# Altium schematic symbol library jlcpcb_2024_10_capacitors_basic.schlib: 88 symbols (part 3 of 4)
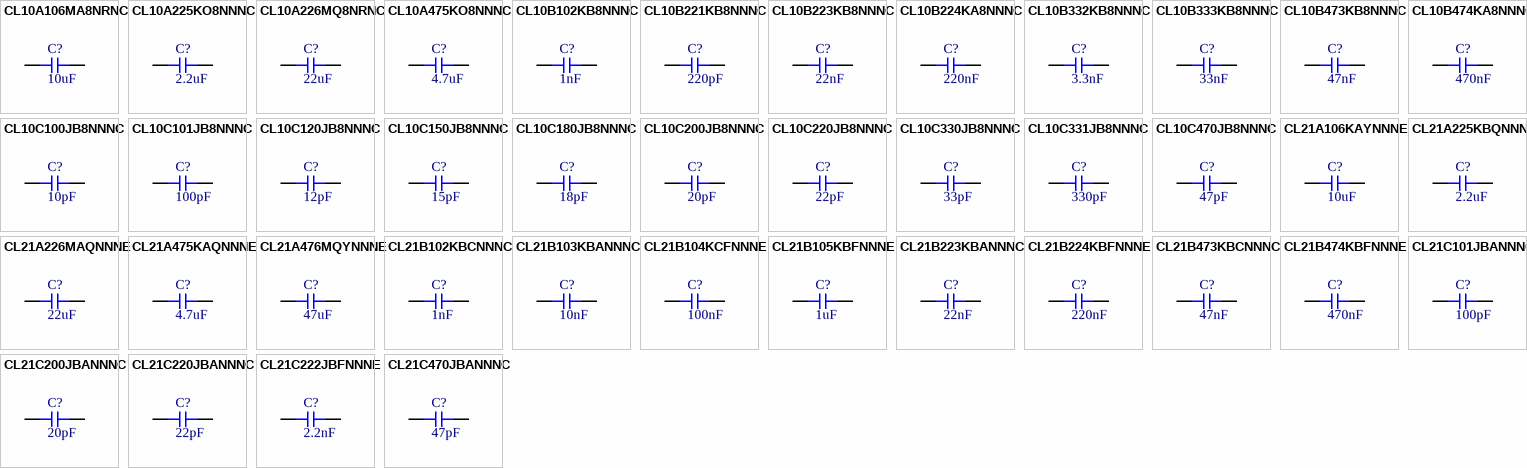
[diagram p4: symbols CL10A106MA8NRNC to CL21C470JBANNNC]

## CL10C220JB8NNNC
designator C?  Capacitance: 22pF  (hidden comment: *)
Capacitor, Ceramic (MLCC), 22pF, ±5%, 50V, C0G, ±5%, SMD 0603; Manufacturer: Samsung Electro-Mechanics; Manufacturer Part Number: CL10C220JB8NNNC; Temperature Rating: -55°C ~ 125°C; Impedance (0V Bias) @ 100MHz: 72Ω; Impedance (0V Bias) @ 500MHz: 12.9Ω; Impedance (0V Bias) @ 1GHz: 4.05Ω; Impedance (0V Bias) @ 2GHz: 4.92Ω; Impedance (0V Bias) @ 5GHz: 15.4Ω; Package Size: 0603; JLCPCB Basic Part: Yes; JLCPCB Part Number: C1653; Supplier 1: LCSC; Category: Capacitors - MLCC; Supplier Part Number 1: C1653; Tolerance: ±5%; Voltage Rating: 50V; Temperature Coefficient: C0G; RoHS: Yes; ComponentLink1Description: Datasheet; ComponentLink1URL: https://wmsc.lcsc.com/wmsc/upload/file/pdf/v2/lcsc/2304140030_Samsung-Electro-Mechanics-CL10C220JB8NNNC_C1653.pdf; ComponentLink2Description: JLCPCB Part URL; ComponentLink2URL: https://jlcpcb.com/partdetail/C1653; ComponentLink3Description: LCSC Part URL; ComponentLink3URL: https://lcsc.com/product-detail/Multilayer-Ceramic-Capacitors-MLCC---SMD-SMT_Samsung-Electro-Mechanics-Samsung-Electro-Mechanics-CL10C220JB8NNNC_C1653.html; ComponentLink4Description: Samsung Component Library; ComponentLink4URL: https://weblib.samsungsem.com/mlcc/mlcc-ec.do?partNumber=CL10C220JB8NNN
footprint CAP-0603 (0603 (1608M) Capacitor)
pins: 1, 2

## CL10C330JB8NNNC
designator C?  Capacitance: 33pF  (hidden comment: *)
Capacitor, Ceramic (MLCC), 33pF, ±5%, 50V, C0G, ±5%, SMD 0603; Manufacturer: Samsung Electro-Mechanics; Manufacturer Part Number: CL10C330JB8NNNC; Temperature Rating: -55°C ~ 125°C; Impedance (0V Bias) @ 100MHz: 47.9Ω; Impedance (0V Bias) @ 500MHz: 8.21Ω; Impedance (0V Bias) @ 1GHz: 2.01Ω; Impedance (0V Bias) @ 2GHz: 5.04Ω; Impedance (0V Bias) @ 5GHz: 11.1Ω; Package Size: 0603; JLCPCB Basic Part: Yes; JLCPCB Part Number: C1663; Supplier 1: LCSC; Category: Capacitors - MLCC; Supplier Part Number 1: C1663; Tolerance: ±5%; Voltage Rating: 50V; Temperature Coefficient: C0G; RoHS: Yes; ComponentLink1Description: Datasheet; ComponentLink1URL: https://wmsc.lcsc.com/wmsc/upload/file/pdf/v2/lcsc/2304140030_Samsung-Electro-Mechanics-CL10C330JB8NNNC_C1663.pdf; ComponentLink2Description: JLCPCB Part URL; ComponentLink2URL: https://jlcpcb.com/partdetail/C1663; ComponentLink3Description: LCSC Part URL; ComponentLink3URL: https://lcsc.com/product-detail/Multilayer-Ceramic-Capacitors-MLCC---SMD-SMT_Samsung-Electro-Mechanics-Samsung-Electro-Mechanics-CL10C330JB8NNNC_C1663.html; ComponentLink4Description: Samsung Component Library; ComponentLink4URL: https://weblib.samsungsem.com/mlcc/mlcc-ec.do?partNumber=CL10C330JB8NNN
footprint CAP-0603 (0603 (1608M) Capacitor)
pins: 1, 2

## CL10C331JB8NNNC
designator C?  Capacitance: 330pF  (hidden comment: *)
Capacitor, Ceramic (MLCC), 330pF, ±5%, 50V, C0G, ±5%, SMD 0603; Manufacturer: Samsung Electro-Mechanics; Manufacturer Part Number: CL10C331JB8NNNC; Temperature Rating: -55°C ~ 125°C; Impedance (0V Bias) @ 10MHz: 48.2Ω; Impedance (0V Bias) @ 50MHz: 9.5Ω; Impedance (0V Bias) @ 100MHz: 4.55Ω; Impedance (0V Bias) @ 500MHz: 0.412Ω; Impedance (0V Bias) @ 1GHz: 2.16Ω; Impedance (0V Bias) @ 2GHz: 4.95Ω; Impedance (0V Bias) @ 5GHz: 9.93Ω; Package Size: 0603; JLCPCB Basic Part: Yes; JLCPCB Part Number: C1664; Supplier 1: LCSC; Category: Capacitors - MLCC; Supplier Part Number 1: C1664; Tolerance: ±5%; Voltage Rating: 50V; Temperature Coefficient: C0G; RoHS: Yes; ComponentLink1Description: Datasheet; ComponentLink1URL: https://wmsc.lcsc.com/wmsc/upload/file/pdf/v2/lcsc/2304140030_Samsung-Electro-Mechanics-CL10C331JB8NNNC_C1664.pdf; ComponentLink2Description: JLCPCB Part URL; ComponentLink2URL: https://jlcpcb.com/partdetail/C1664; ComponentLink3Description: LCSC Part URL; ComponentLink3URL: https://lcsc.com/product-detail/Multilayer-Ceramic-Capacitors-MLCC---SMD-SMT_Samsung-Electro-Mechanics-Samsung-Electro-Mechanics-CL10C331JB8NNNC_C1664.html; ComponentLink4Description: Samsung Component Library; ComponentLink4URL: https://weblib.samsungsem.com/mlcc/mlcc-ec.do?partNumber=CL10C331JB8NNN
footprint CAP-0603 (0603 (1608M) Capacitor)
pins: 1, 2

## CL10C470JB8NNNC
designator C?  Capacitance: 47pF  (hidden comment: *)
Capacitor, Ceramic (MLCC), 47pF, ±5%, 50V, C0G, ±5%, SMD 0603; Manufacturer: Samsung Electro-Mechanics; Manufacturer Part Number: CL10C470JB8NNNC; Temperature Rating: -55°C ~ 125°C; Impedance (0V Bias) @ 100MHz: 33.5Ω; Impedance (0V Bias) @ 500MHz: 4.98Ω; Impedance (0V Bias) @ 1GHz: 0.296Ω; Impedance (0V Bias) @ 2GHz: 7.28Ω; Impedance (0V Bias) @ 5GHz: 16.2Ω; Package Size: 0603; JLCPCB Basic Part: Yes; JLCPCB Part Number: C1671; Supplier 1: LCSC; Category: Capacitors - MLCC; Supplier Part Number 1: C1671; Tolerance: ±5%; Voltage Rating: 50V; Temperature Coefficient: C0G; RoHS: Yes; ComponentLink1Description: Datasheet; ComponentLink1URL: https://wmsc.lcsc.com/wmsc/upload/file/pdf/v2/lcsc/2304140030_Samsung-Electro-Mechanics-CL10C470JB8NNNC_C1671.pdf; ComponentLink2Description: JLCPCB Part URL; ComponentLink2URL: https://jlcpcb.com/partdetail/C1671; ComponentLink3Description: LCSC Part URL; ComponentLink3URL: https://lcsc.com/product-detail/Multilayer-Ceramic-Capacitors-MLCC---SMD-SMT_Samsung-Electro-Mechanics-Samsung-Electro-Mechanics-CL10C470JB8NNNC_C1671.html; ComponentLink4Description: Samsung Component Library; ComponentLink4URL: https://weblib.samsungsem.com/mlcc/mlcc-ec.do?partNumber=CL10C470JB8NNN
footprint CAP-0603 (0603 (1608M) Capacitor)
pins: 1, 2

## CL21A106KAYNNNE
designator C?  Capacitance: 10uF  (hidden comment: *)
Capacitor, Ceramic (MLCC), 10uF, ±10%, 25V, X5R, ±10%, SMD 0805; Manufacturer: Samsung Electro-Mechanics; Manufacturer Part Number: CL21A106KAYNNNE; Temperature Rating: -55°C ~ 85°C; Capacitance @ 1V DC Bias: 10.643uF; Capacitance @ 1.2V DC Bias: 10.491uF; Capacitance @ 1.35V DC Bias: 10.346uF; Capacitance @ 1.5V DC Bias: 10.185uF; Capacitance @ 1.8V DC Bias: 9.822uF; Capacitance @ 2.5V DC Bias: 8.853uF; Capacitance @ 3.3V DC Bias: 7.678uF; Capacitance @ 3.7V DC Bias: 7.129uF; Capacitance @ 4.2V DC Bias: 6.498uF; Capacitance @ 5V DC Bias: 5.625uF; Capacitance @ 9V DC Bias: 2.972uF; Capacitance @ 12V DC Bias: 2.172uF; Capacitance @ 15V DC Bias: 1.589uF; Capacitance @ 24V DC Bias: 0.886uF; Impedance (0V Bias) @ 100Hz: 222Ω; Impedance (0V Bias) @ 500Hz: 45.6Ω; Impedance (0V Bias) @ 1kHz: 23.1Ω; Impedance (0V Bias) @ 5kHz: 4.73Ω; Impedance (0V Bias) @ 10kHz: 2.39Ω; Impedance (0V Bias) @ 50kHz: 0.49Ω; Impedance (0V Bias) @ 100kHz: 0.247Ω; Impedance (0V Bias) @ 500kHz: 0.0488Ω; Impedance (0V Bias) @ 1MHz: 0.0217Ω; Impedance (0V Bias) @ 5MHz: 0.0162Ω; Impedance (0V Bias) @ 10MHz: 0.0226Ω; Impedance (0V Bias) @ 50MHz: 0.0707Ω; Impedance (0V Bias) @ 100MHz: 0.125Ω; Impedance (0V Bias) @ 500MHz: 0.519Ω; Impedance (0V Bias) @ 1GHz: 1Ω; Impedance (0V Bias) @ 2GHz: 2.61Ω; Impedance (0V Bias) @ 5GHz: 3.47Ω; Impedance (25V Bias) @ 100Hz: 1.99E+03Ω; Impedance (25V Bias) @ 500Hz: 400Ω; Impedance (25V Bias) @ 1kHz: 201Ω; Impedance (25V Bias) @ 5kHz: 40.5Ω; Impedance (25V Bias) @ 10kHz: 20.3Ω; Impedance (25V Bias) @ 50kHz: 4.09Ω; Impedance (25V Bias) @ 100kHz: 2.05Ω; Impedance (25V Bias) @ 500kHz: 0.407Ω; Impedance (25V Bias) @ 1MHz: 0.181Ω; Impedance (25V Bias) @ 5MHz: 0.0296Ω; Impedance (25V Bias) @ 10MHz: 0.0203Ω; Impedance (25V Bias) @ 50MHz: 0.0794Ω; Impedance (25V Bias) @ 100MHz: 0.128Ω; Impedance (25V Bias) @ 1GHz: 0.987Ω; Impedance (25V Bias) @ 2GHz: 2.53Ω; Impedance (25V Bias) @ 5GHz: 3.45Ω; Package Size: 0805; JLCPCB Basic Part: Yes; JLCPCB Part Number: C15850; Supplier 1: LCSC; Category: Capacitors - MLCC; Supplier Part Number 1: C15850; Tolerance: ±10%; Voltage Rating: 25V; Temperature Coefficient: X5R; RoHS: Yes; ComponentLink1Description: Datasheet; ComponentLink1URL: https://wmsc.lcsc.com/wmsc/upload/file/pdf/v2/lcsc/2304140030_Samsung-Electro-Mechanics-CL21A106KAYNNNE_C15850.pdf; ComponentLink2Description: JLCPCB Part URL; ComponentLink2URL: https://jlcpcb.com/partdetail/C15850; ComponentLink3Description: LCSC Part URL; ComponentLink3URL: https://lcsc.com/product-detail/Multilayer-Ceramic-Capacitors-MLCC---SMD-SMT_Samsung-Electro-Mechanics-Samsung-Electro-Mechanics-CL21A106KAYNNNE_C15850.html; ComponentLink4Description: Samsung Component Library; ComponentLink4URL: https://weblib.samsungsem.com/mlcc/mlcc-ec.do?partNumber=CL21A106KAYNNN; Impedance (25V Bias) @ 500MHz: 0.519Ω
footprint CAP-0805 (0805 (2012M) Capacitor)
pins: 1, 2

## CL21A225KBQNNNE
designator C?  Capacitance: 2.2uF  (hidden comment: *)
Capacitor, Ceramic (MLCC), 2.2uF, ±10%, 50V, X5R, ±10%, SMD 0805; Manufacturer: Samsung Electro-Mechanics; Manufacturer Part Number: CL21A225KBQNNNE; Temperature Rating: -55°C ~ 85°C; Capacitance @ 1V DC Bias: 2.164uF; Capacitance @ 1.2V DC Bias: 2.169uF; Capacitance @ 1.35V DC Bias: 2.172uF; Capacitance @ 1.5V DC Bias: 2.174uF; Capacitance @ 1.8V DC Bias: 2.175uF; Capacitance @ 2.5V DC Bias: 2.152uF; Capacitance @ 3.3V DC Bias: 2.100uF; Capacitance @ 3.7V DC Bias: 2.067uF; Capacitance @ 4.2V DC Bias: 2.022uF; Capacitance @ 5V DC Bias: 1.940uF; Capacitance @ 9V DC Bias: 1.482uF; Capacitance @ 12V DC Bias: 1.214uF; Capacitance @ 15V DC Bias: 0.992uF; Capacitance @ 24V DC Bias: 0.604uF; Capacitance @ 36V DC Bias: 0.369uF; Capacitance @ 48V DC Bias: 0.274uF; Impedance (0V Bias) @ 100Hz: 786Ω; Impedance (0V Bias) @ 500Hz: 159Ω; Impedance (0V Bias) @ 1kHz: 80.1Ω; Impedance (0V Bias) @ 5kHz: 16.2Ω; Impedance (0V Bias) @ 10kHz: 8.14Ω; Impedance (0V Bias) @ 50kHz: 1.65Ω; Impedance (0V Bias) @ 100kHz: 0.827Ω; Impedance (0V Bias) @ 500kHz: 0.165Ω; Impedance (0V Bias) @ 1MHz: 0.0803Ω; Impedance (0V Bias) @ 5MHz: 0.00734Ω; Impedance (0V Bias) @ 10MHz: 0.0272Ω; Impedance (0V Bias) @ 50MHz: 0.0815Ω; Impedance (0V Bias) @ 100MHz: 0.146Ω; Impedance (0V Bias) @ 500MHz: 0.601Ω; Impedance (0V Bias) @ 1GHz: 1.13Ω; Impedance (0V Bias) @ 2GHz: 2.89Ω; Impedance (0V Bias) @ 5GHz: 4.04Ω; Package Size: 0805; JLCPCB Basic Part: Yes; JLCPCB Part Number: C377773; Supplier 1: LCSC; Category: Capacitors - MLCC; Supplier Part Number 1: C377773; Tolerance: ±10%; Voltage Rating: 50V; Temperature Coefficient: X5R; RoHS: Yes; ComponentLink1Description: Datasheet; ComponentLink1URL: https://wmsc.lcsc.com/wmsc/upload/file/pdf/v2/lcsc/2304140030_Samsung-Electro-Mechanics-CL21A225KBQNNNE_C377773.pdf; ComponentLink2Description: JLCPCB Part URL; ComponentLink2URL: https://jlcpcb.com/partdetail/C377773; ComponentLink3Description: LCSC Part URL; ComponentLink3URL: https://lcsc.com/product-detail/Multilayer-Ceramic-Capacitors-MLCC---SMD-SMT_Samsung-Electro-Mechanics-Samsung-Electro-Mechanics-CL21A225KBQNNNE_C377773.html; ComponentLink4Description: Samsung Component Library; ComponentLink4URL: https://weblib.samsungsem.com/mlcc/mlcc-ec.do?partNumber=CL21A225KBQNNN
footprint CAP-0805 (0805 (2012M) Capacitor)
pins: 1, 2

## CL21A226MAQNNNE
designator C?  Capacitance: 22uF  (hidden comment: *)
Capacitor, Ceramic (MLCC), 22uF, ±20%, 25V, X5R, ±20%, SMD 0805; Manufacturer: Samsung Electro-Mechanics; Manufacturer Part Number: CL21A226MAQNNNE; Temperature Rating: -55°C ~ 85°C; Capacitance @ 1V DC Bias: 19.999uF; Capacitance @ 1.2V DC Bias: 19.563uF; Capacitance @ 1.35V DC Bias: 19.202uF; Capacitance @ 1.5V DC Bias: 18.822uF; Capacitance @ 1.8V DC Bias: 18.030uF; Capacitance @ 2.5V DC Bias: 16.029uF; Capacitance @ 3.3V DC Bias: 13.689uF; Capacitance @ 3.7V DC Bias: 12.636uF; Capacitance @ 4.2V DC Bias: 11.463uF; Capacitance @ 5V DC Bias: 9.846uF; Capacitance @ 9V DC Bias: 5.133uF; Capacitance @ 12V DC Bias: 3.756uF; Capacitance @ 15V DC Bias: 2.756uF; Capacitance @ 24V DC Bias: 1.578uF; Impedance (0V Bias) @ 100Hz: 93.6Ω; Impedance (0V Bias) @ 500Hz: 19.1Ω; Impedance (0V Bias) @ 1kHz: 9.64Ω; Impedance (0V Bias) @ 5kHz: 1.97Ω; Impedance (0V Bias) @ 10kHz: 0.992Ω; Impedance (0V Bias) @ 50kHz: 0.203Ω; Impedance (0V Bias) @ 100kHz: 0.102Ω; Impedance (0V Bias) @ 500kHz: 0.0188Ω; Impedance (0V Bias) @ 1MHz: 0.00657Ω; Impedance (0V Bias) @ 5MHz: 0.0137Ω; Impedance (0V Bias) @ 10MHz: 0.0227Ω; Impedance (0V Bias) @ 50MHz: 0.0786Ω; Impedance (0V Bias) @ 100MHz: 0.138Ω; Impedance (0V Bias) @ 500MHz: 0.487Ω; Impedance (0V Bias) @ 1GHz: 0.811Ω; Impedance (0V Bias) @ 2GHz: 1.87Ω; Impedance (0V Bias) @ 5GHz: 2.42Ω; Impedance (25V Bias) @ 100Hz: 1.09E+03Ω; Impedance (25V Bias) @ 500Hz: 219Ω; Impedance (25V Bias) @ 1kHz: 110Ω; Impedance (25V Bias) @ 5kHz: 22.1Ω; Impedance (25V Bias) @ 10kHz: 11Ω; Impedance (25V Bias) @ 50kHz: 2.22Ω; Impedance (25V Bias) @ 100kHz: 1.11Ω; Impedance (25V Bias) @ 500kHz: 0.22Ω; Impedance (25V Bias) @ 1MHz: 0.101Ω; Impedance (25V Bias) @ 5MHz: 0.008Ω; Impedance (25V Bias) @ 10MHz: 0.0343Ω; Impedance (25V Bias) @ 50MHz: 0.0782Ω; Impedance (25V Bias) @ 100MHz: 0.136Ω; Impedance (25V Bias) @ 500MHz: 0.528Ω; Impedance (25V Bias) @ 1GHz: 0.864Ω; Impedance (25V Bias) @ 2GHz: 1.78Ω; Impedance (25V Bias) @ 5GHz: 2.43Ω; Package Size: 0805; JLCPCB Basic Part: Yes; JLCPCB Part Number: C45783; Supplier 1: LCSC; Category: Capacitors - MLCC; Supplier Part Number 1: C45783; Tolerance: ±20%; Voltage Rating: 25V; Temperature Coefficient: X5R; RoHS: Yes; ComponentLink1Description: Datasheet; ComponentLink1URL: https://wmsc.lcsc.com/wmsc/upload/file/pdf/v2/lcsc/2304140030_Samsung-Electro-Mechanics-CL21A226MAQNNNE_C45783.pdf; ComponentLink2Description: JLCPCB Part URL; ComponentLink2URL: https://jlcpcb.com/partdetail/C45783; ComponentLink3Description: LCSC Part URL; ComponentLink3URL: https://lcsc.com/product-detail/Multilayer-Ceramic-Capacitors-MLCC---SMD-SMT_Samsung-Electro-Mechanics-Samsung-Electro-Mechanics-CL21A226MAQNNNE_C45783.html; ComponentLink4Description: Samsung Component Library; ComponentLink4URL: https://weblib.samsungsem.com/mlcc/mlcc-ec.do?partNumber=CL21A226MAQNNN
footprint CAP-0805 (0805 (2012M) Capacitor)
pins: 1, 2

## CL21A475KAQNNNE
designator C?  Capacitance: 4.7uF  (hidden comment: *)
Capacitor, Ceramic (MLCC), 4.7uF, ±10%, 25V, X5R, ±10%, SMD 0805; Manufacturer: Samsung Electro-Mechanics; Manufacturer Part Number: CL21A475KAQNNNE; Temperature Rating: -55°C ~ 85°C; Capacitance @ 1V DC Bias: 4.795uF; Capacitance @ 1.2V DC Bias: 4.759uF; Capacitance @ 1.35V DC Bias: 4.729uF; Capacitance @ 1.5V DC Bias: 4.696uF; Capacitance @ 1.8V DC Bias: 4.620uF; Capacitance @ 2.5V DC Bias: 4.370uF; Capacitance @ 3.3V DC Bias: 4.025uF; Capacitance @ 3.7V DC Bias: 3.842uF; Capacitance @ 4.2V DC Bias: 3.617uF; Capacitance @ 5V DC Bias: 3.271uF; Capacitance @ 9V DC Bias: 1.963uF; Capacitance @ 12V DC Bias: 1.480uF; Capacitance @ 15V DC Bias: 1.111uF; Capacitance @ 24V DC Bias: 0.615uF; Impedance (0V Bias) @ 100Hz: 460Ω; Impedance (0V Bias) @ 500Hz: 94.2Ω; Impedance (0V Bias) @ 1kHz: 47.6Ω; Impedance (0V Bias) @ 5kHz: 9.72Ω; Impedance (0V Bias) @ 10kHz: 4.9Ω; Impedance (0V Bias) @ 50kHz: 1Ω; Impedance (0V Bias) @ 100kHz: 0.504Ω; Impedance (0V Bias) @ 500kHz: 0.101Ω; Impedance (0V Bias) @ 1MHz: 0.0481Ω; Impedance (0V Bias) @ 5MHz: 0.0137Ω; Impedance (0V Bias) @ 10MHz: 0.0264Ω; Impedance (0V Bias) @ 50MHz: 0.0762Ω; Impedance (0V Bias) @ 100MHz: 0.134Ω; Impedance (0V Bias) @ 500MHz: 0.548Ω; Impedance (0V Bias) @ 1GHz: 1.04Ω; Impedance (0V Bias) @ 2GHz: 2.73Ω; Impedance (0V Bias) @ 5GHz: 3.25Ω; Impedance (25V Bias) @ 100Hz: 2.59E+03Ω; Impedance (25V Bias) @ 500Hz: 522Ω; Impedance (25V Bias) @ 1kHz: 262Ω; Impedance (25V Bias) @ 5kHz: 52.9Ω; Impedance (25V Bias) @ 10kHz: 26.5Ω; Impedance (25V Bias) @ 50kHz: 5.35Ω; Impedance (25V Bias) @ 100kHz: 2.68Ω; Impedance (25V Bias) @ 500kHz: 0.534Ω; Impedance (25V Bias) @ 1MHz: 0.234Ω; Impedance (25V Bias) @ 5MHz: 0.0443Ω; Impedance (25V Bias) @ 10MHz: 0.0123Ω; Impedance (25V Bias) @ 50MHz: 0.082Ω; Impedance (25V Bias) @ 100MHz: 0.136Ω; Impedance (25V Bias) @ 500MHz: 0.553Ω; Impedance (25V Bias) @ 1GHz: 1.05Ω; Impedance (25V Bias) @ 2GHz: 2.7Ω; Impedance (25V Bias) @ 5GHz: 3.2Ω; Package Size: 0805; JLCPCB Basic Part: Yes; JLCPCB Part Number: C1779; Supplier 1: LCSC; Category: Capacitors - MLCC; Supplier Part Number 1: C1779; Tolerance: ±10%; Voltage Rating: 25V; Temperature Coefficient: X5R; RoHS: Yes; ComponentLink1Description: Datasheet; ComponentLink1URL: https://wmsc.lcsc.com/wmsc/upload/file/pdf/v2/lcsc/2304140030_Samsung-Electro-Mechanics-CL21A475KAQNNNE_C1779.pdf; ComponentLink2Description: JLCPCB Part URL; ComponentLink2URL: https://jlcpcb.com/partdetail/C1779; ComponentLink3Description: LCSC Part URL; ComponentLink3URL: https://lcsc.com/product-detail/Multilayer-Ceramic-Capacitors-MLCC---SMD-SMT_Samsung-Electro-Mechanics-Samsung-Electro-Mechanics-CL21A475KAQNNNE_C1779.html; ComponentLink4Description: Samsung Component Library; ComponentLink4URL: https://weblib.samsungsem.com/mlcc/mlcc-ec.do?partNumber=CL21A475KAQNNN
footprint CAP-0805 (0805 (2012M) Capacitor)
pins: 1, 2

## CL21A476MQYNNNE
designator C?  Capacitance: 47uF  (hidden comment: *)
Capacitor, Ceramic (MLCC), 47uF, ±20%, 6.3V, X5R, ±20%, SMD 0805; Manufacturer: Samsung Electro-Mechanics; Manufacturer Part Number: CL21A476MQYNNNE; Temperature Rating: -55°C ~ 85°C; Capacitance @ 1V DC Bias: 37.588uF; Capacitance @ 1.2V DC Bias: 35.744uF; Capacitance @ 1.35V DC Bias: 34.267uF; Capacitance @ 1.5V DC Bias: 32.775uF; Capacitance @ 1.8V DC Bias: 29.885uF; Capacitance @ 2.5V DC Bias: 24.262uF; Capacitance @ 3.3V DC Bias: 18.956uF; Capacitance @ 3.7V DC Bias: 16.988uF; Capacitance @ 4.2V DC Bias: 14.989uF; Capacitance @ 5V DC Bias: 12.411uF; Impedance (0V Bias) @ 100Hz: 51.8Ω; Impedance (0V Bias) @ 500Hz: 10.7Ω; Impedance (0V Bias) @ 1kHz: 5.39Ω; Impedance (0V Bias) @ 5kHz: 1.11Ω; Impedance (0V Bias) @ 10kHz: 0.559Ω; Impedance (0V Bias) @ 50kHz: 0.115Ω; Impedance (0V Bias) @ 100kHz: 0.0576Ω; Impedance (0V Bias) @ 500kHz: 0.00947Ω; Impedance (0V Bias) @ 1MHz: 0.00305Ω; Impedance (0V Bias) @ 5MHz: 0.0134Ω; Impedance (0V Bias) @ 10MHz: 0.0218Ω; Impedance (0V Bias) @ 50MHz: 0.0701Ω; Impedance (0V Bias) @ 100MHz: 0.113Ω; Impedance (0V Bias) @ 500MHz: 0.391Ω; Impedance (0V Bias) @ 1GHz: 0.706Ω; Impedance (0V Bias) @ 2GHz: 1.8Ω; Impedance (0V Bias) @ 5GHz: 2.67Ω; Package Size: 0805; JLCPCB Basic Part: Yes; JLCPCB Part Number: C16780; Supplier 1: LCSC; Category: Capacitors - MLCC; Supplier Part Number 1: C16780; Tolerance: ±20%; Voltage Rating: 6.3V; Temperature Coefficient: X5R; RoHS: Yes; ComponentLink1Description: Datasheet; ComponentLink1URL: https://wmsc.lcsc.com/wmsc/upload/file/pdf/v2/lcsc/2304140030_Samsung-Electro-Mechanics-CL21A476MQYNNNE_C16780.pdf; ComponentLink2Description: JLCPCB Part URL; ComponentLink2URL: https://jlcpcb.com/partdetail/C16780; ComponentLink3Description: LCSC Part URL; ComponentLink3URL: https://lcsc.com/product-detail/Multilayer-Ceramic-Capacitors-MLCC---SMD-SMT_Samsung-Electro-Mechanics-Samsung-Electro-Mechanics-CL21A476MQYNNNE_C16780.html; ComponentLink4Description: Samsung Component Library; ComponentLink4URL: https://weblib.samsungsem.com/mlcc/mlcc-ec.do?partNumber=CL21A476MQYNNN
footprint CAP-0805 (0805 (2012M) Capacitor)
pins: 1, 2

## CL21B102KBCNNNC
designator C?  Capacitance: 1nF  (hidden comment: *)
Capacitor, Ceramic (MLCC), 1nF, ±10%, 50V, X7R, ±10%, SMD 0805; Manufacturer: Samsung Electro-Mechanics; Manufacturer Part Number: CL21B102KBCNNNC; Temperature Rating: -55°C ~ 125°C; Capacitance @ 1V DC Bias: 1.006nF; Capacitance @ 1.2V DC Bias: 1.008nF; Capacitance @ 1.35V DC Bias: 1.009nF; Capacitance @ 1.8V DC Bias: 1.011nF; Capacitance @ 2.5V DC Bias: 1.013nF; Capacitance @ 3.3V DC Bias: 1.014nF; Capacitance @ 3.7V DC Bias: 1.015nF; Capacitance @ 4.2V DC Bias: 1.017nF; Capacitance @ 5V DC Bias: 1.018nF; Capacitance @ 9V DC Bias: 1.022nF; Capacitance @ 12V DC Bias: 1.021nF; Capacitance @ 15V DC Bias: 1.020nF; Capacitance @ 24V DC Bias: 1.012nF; Capacitance @ 36V DC Bias: 0.995nF; Capacitance @ 48V DC Bias: 0.975nF; Impedance (0V Bias) @ 100Hz: 1.39E+06Ω; Impedance (0V Bias) @ 500Hz: 2.85E+05Ω; Impedance (0V Bias) @ 1kHz: 1.43E+05Ω; Impedance (0V Bias) @ 5kHz: 2.92E+04Ω; Impedance (0V Bias) @ 10kHz: 1.47E+04Ω; Impedance (0V Bias) @ 50kHz: 3E+03Ω; Impedance (0V Bias) @ 100kHz: 1.51E+03Ω; Impedance (0V Bias) @ 500kHz: 307Ω; Impedance (0V Bias) @ 1MHz: 155Ω; Impedance (0V Bias) @ 5MHz: 31.6Ω; Impedance (0V Bias) @ 10MHz: 15.9Ω; Impedance (0V Bias) @ 50MHz: 3.25Ω; Impedance (0V Bias) @ 100MHz: 1.41Ω; Impedance (0V Bias) @ 500MHz: 1.58Ω; Impedance (0V Bias) @ 1GHz: 3.83Ω; Impedance (0V Bias) @ 2GHz: 12.4Ω; Impedance (0V Bias) @ 5GHz: 7.64Ω; Package Size: 0805; JLCPCB Basic Part: Yes; JLCPCB Part Number: C46653; Supplier 1: LCSC; Category: Capacitors - MLCC; Supplier Part Number 1: C46653; Tolerance: ±10%; Voltage Rating: 50V; Temperature Coefficient: X7R; RoHS: Yes; ComponentLink1Description: Datasheet; ComponentLink1URL: https://wmsc.lcsc.com/wmsc/upload/file/pdf/v2/lcsc/2304140030_Samsung-Electro-Mechanics-CL21B102KBCNNNC_C46653.pdf; ComponentLink2Description: JLCPCB Part URL; ComponentLink2URL: https://jlcpcb.com/partdetail/C46653; ComponentLink3Description: LCSC Part URL; ComponentLink3URL: https://lcsc.com/product-detail/Multilayer-Ceramic-Capacitors-MLCC---SMD-SMT_Samsung-Electro-Mechanics-Samsung-Electro-Mechanics-CL21B102KBCNNNC_C46653.html; ComponentLink4Description: Samsung Component Library; ComponentLink4URL: https://weblib.samsungsem.com/mlcc/mlcc-ec.do?partNumber=CL21B102KBCNNN; Capacitance @ 1.5V DC Bias: 1.009nF
footprint CAP-0805 (0805 (2012M) Capacitor)
pins: 1, 2

## CL21B103KBANNNC
designator C?  Capacitance: 10nF  (hidden comment: *)
Capacitor, Ceramic (MLCC), 10nF, ±10%, 50V, X7R, ±10%, SMD 0805; Manufacturer: Samsung Electro-Mechanics; Manufacturer Part Number: CL21B103KBANNNC; Temperature Rating: -55°C ~ 125°C; Capacitance @ 1V DC Bias: 10.421nF; Capacitance @ 1.2V DC Bias: 10.439nF; Capacitance @ 1.35V DC Bias: 10.451nF; Capacitance @ 1.5V DC Bias: 10.463nF; Capacitance @ 1.8V DC Bias: 10.484nF; Capacitance @ 2.5V DC Bias: 10.524nF; Capacitance @ 3.3V DC Bias: 10.551nF; Capacitance @ 3.7V DC Bias: 10.557nF; Capacitance @ 4.2V DC Bias: 10.562nF; Capacitance @ 5V DC Bias: 10.565nF; Capacitance @ 9V DC Bias: 10.540nF; Capacitance @ 12V DC Bias: 10.487nF; Capacitance @ 15V DC Bias: 10.434nF; Capacitance @ 24V DC Bias: 10.218nF; Capacitance @ 36V DC Bias: 9.802nF; Capacitance @ 48V DC Bias: 9.240nF; Impedance (0V Bias) @ 100Hz: 1.5E+05Ω; Impedance (0V Bias) @ 500Hz: 3.04E+04Ω; Impedance (0V Bias) @ 1kHz: 1.53E+04Ω; Impedance (0V Bias) @ 5kHz: 3.11E+03Ω; Impedance (0V Bias) @ 10kHz: 1.56E+03Ω; Impedance (0V Bias) @ 50kHz: 318Ω; Impedance (0V Bias) @ 100kHz: 160Ω; Impedance (0V Bias) @ 500kHz: 32.5Ω; Impedance (0V Bias) @ 1MHz: 16.4Ω; Impedance (0V Bias) @ 5MHz: 3.34Ω; Impedance (0V Bias) @ 10MHz: 1.67Ω; Impedance (0V Bias) @ 50MHz: 0.236Ω; Impedance (0V Bias) @ 100MHz: 0.108Ω; Impedance (0V Bias) @ 500MHz: 0.894Ω; Impedance (0V Bias) @ 1GHz: 1.72Ω; Impedance (0V Bias) @ 2GHz: 4.58Ω; Impedance (0V Bias) @ 5GHz: 7.79Ω; Package Size: 0805; JLCPCB Basic Part: Yes; JLCPCB Part Number: C1710; Supplier 1: LCSC; Category: Capacitors - MLCC; Supplier Part Number 1: C1710; Tolerance: ±10%; Voltage Rating: 50V; Temperature Coefficient: X7R; RoHS: Yes; ComponentLink1Description: Datasheet; ComponentLink1URL: https://wmsc.lcsc.com/wmsc/upload/file/pdf/v2/lcsc/2304140030_Samsung-Electro-Mechanics-CL21B103KBANNNC_C1710.pdf; ComponentLink2Description: JLCPCB Part URL; ComponentLink2URL: https://jlcpcb.com/partdetail/C1710; ComponentLink3Description: LCSC Part URL; ComponentLink3URL: https://lcsc.com/product-detail/Multilayer-Ceramic-Capacitors-MLCC---SMD-SMT_Samsung-Electro-Mechanics-Samsung-Electro-Mechanics-CL21B103KBANNNC_C1710.html; ComponentLink4Description: Samsung Component Library; ComponentLink4URL: https://weblib.samsungsem.com/mlcc/mlcc-ec.do?partNumber=CL21B103KBANNN
footprint CAP-0805 (0805 (2012M) Capacitor)
pins: 1, 2

## CL21B104KCFNNNE
designator C?  Capacitance: 100nF  (hidden comment: *)
Capacitor, Ceramic (MLCC), 100nF, ±10%, 100V, X7R, ±10%, SMD 0805; Manufacturer: Samsung Electro-Mechanics; Manufacturer Part Number: CL21B104KCFNNNE; Temperature Rating: -55°C ~ 125°C; Capacitance @ 1V DC Bias: 101065.938nF; Capacitance @ 1.2V DC Bias: 100968.420nF; Capacitance @ 1.35V DC Bias: 100895.282nF; Capacitance @ 1.5V DC Bias: 100822.144nF; Capacitance @ 1.8V DC Bias: 100675.867nF; Capacitance @ 2.5V DC Bias: 100344.024nF; Capacitance @ 3.3V DC Bias: 99970.523nF; Capacitance @ 3.7V DC Bias: 99784.956nF; Capacitance @ 4.2V DC Bias: 99551.104nF; Capacitance @ 5V DC Bias: 99172.396nF; Capacitance @ 9V DC Bias: 96900.107nF; Capacitance @ 12V DC Bias: 94467.789nF; Capacitance @ 15V DC Bias: 91499.708nF; Capacitance @ 24V DC Bias: 81367.024nF; Capacitance @ 36V DC Bias: 66480.736nF; Capacitance @ 48V DC Bias: 52824.432nF; Impedance (0V Bias) @ 100Hz: 1.75E+04Ω; Impedance (0V Bias) @ 500Hz: 3.55E+03Ω; Impedance (0V Bias) @ 1kHz: 1.79E+03Ω; Impedance (0V Bias) @ 5kHz: 363Ω; Impedance (0V Bias) @ 10kHz: 182Ω; Impedance (0V Bias) @ 50kHz: 37Ω; Impedance (0V Bias) @ 100kHz: 18.6Ω; Impedance (0V Bias) @ 500kHz: 3.77Ω; Impedance (0V Bias) @ 1MHz: 1.89Ω; Impedance (0V Bias) @ 5MHz: 0.369Ω; Impedance (0V Bias) @ 10MHz: 0.16Ω; Impedance (0V Bias) @ 50MHz: 0.132Ω; Impedance (0V Bias) @ 100MHz: 0.298Ω; Impedance (0V Bias) @ 500MHz: 1.41Ω; Impedance (0V Bias) @ 1GHz: 2.88Ω; Impedance (0V Bias) @ 2GHz: 9Ω; Impedance (0V Bias) @ 5GHz: 8.8Ω; Package Size: 0805; JLCPCB Basic Part: Yes; JLCPCB Part Number: C28233; Supplier 1: LCSC; Category: Capacitors - MLCC; Supplier Part Number 1: C28233; Tolerance: ±10%; Voltage Rating: 100V; Temperature Coefficient: X7R; RoHS: Yes; ComponentLink1Description: Datasheet; ComponentLink1URL: https://wmsc.lcsc.com/wmsc/upload/file/pdf/v2/lcsc/2304140030_Samsung-Electro-Mechanics-CL21B104KCFNNNE_C28233.pdf; ComponentLink2Description: JLCPCB Part URL; ComponentLink2URL: https://jlcpcb.com/partdetail/C28233; ComponentLink3Description: LCSC Part URL; ComponentLink3URL: https://lcsc.com/product-detail/Multilayer-Ceramic-Capacitors-MLCC---SMD-SMT_Samsung-Electro-Mechanics-Samsung-Electro-Mechanics-CL21B104KCFNNNE_C28233.html; ComponentLink4Description: Samsung Component Library; ComponentLink4URL: https://weblib.samsungsem.com/mlcc/mlcc-ec.do?partNumber=CL21B104KCFNNN
footprint CAP-0805 (0805 (2012M) Capacitor)
pins: 1, 2

## CL21B105KBFNNNE
designator C?  Capacitance: 1uF  (hidden comment: *)
Capacitor, Ceramic (MLCC), 1uF, ±10%, 50V, X7R, ±10%, SMD 0805; Manufacturer: Samsung Electro-Mechanics; Manufacturer Part Number: CL21B105KBFNNNE; Temperature Rating: -55°C ~ 125°C; Capacitance @ 1V DC Bias: 1.022uF; Capacitance @ 1.2V DC Bias: 1.023uF; Capacitance @ 2.5V DC Bias: 1.020uF; Capacitance @ 3.3V DC Bias: 1.012uF; Capacitance @ 3.7V DC Bias: 1.007uF; Capacitance @ 4.2V DC Bias: 1.001uF; Capacitance @ 5V DC Bias: 0.989uF; Capacitance @ 9V DC Bias: 0.922uF; Capacitance @ 12V DC Bias: 0.865uF; Capacitance @ 15V DC Bias: 0.808uF; Capacitance @ 24V DC Bias: 0.633uF; Capacitance @ 36V DC Bias: 0.438uF; Capacitance @ 48V DC Bias: 0.303uF; Impedance (0V Bias) @ 100Hz: 1.59E+03Ω; Impedance (0V Bias) @ 500Hz: 322Ω; Impedance (0V Bias) @ 1kHz: 162Ω; Impedance (0V Bias) @ 5kHz: 32.7Ω; Impedance (0V Bias) @ 10kHz: 16.4Ω; Impedance (0V Bias) @ 50kHz: 3.32Ω; Impedance (0V Bias) @ 100kHz: 1.67Ω; Impedance (0V Bias) @ 500kHz: 0.337Ω; Impedance (0V Bias) @ 1MHz: 0.167Ω; Impedance (0V Bias) @ 5MHz: 0.0173Ω; Impedance (0V Bias) @ 10MHz: 0.0272Ω; Impedance (0V Bias) @ 50MHz: 0.083Ω; Impedance (0V Bias) @ 100MHz: 0.15Ω; Impedance (0V Bias) @ 500MHz: 0.646Ω; Impedance (0V Bias) @ 1GHz: 1.23Ω; Impedance (0V Bias) @ 2GHz: 3.21Ω; Impedance (0V Bias) @ 5GHz: 4.31Ω; Package Size: 0805; JLCPCB Basic Part: Yes; JLCPCB Part Number: C28323; Supplier 1: LCSC; Category: Capacitors - MLCC; Supplier Part Number 1: C28323; Tolerance: ±10%; Voltage Rating: 50V; Temperature Coefficient: X7R; RoHS: Yes; ComponentLink1Description: Datasheet; ComponentLink1URL: https://wmsc.lcsc.com/wmsc/upload/file/pdf/v2/lcsc/2304140030_Samsung-Electro-Mechanics-CL21B105KBFNNNE_C28323.pdf; ComponentLink2Description: JLCPCB Part URL; ComponentLink2URL: https://jlcpcb.com/partdetail/C28323; ComponentLink3Description: LCSC Part URL; ComponentLink3URL: https://lcsc.com/product-detail/Multilayer-Ceramic-Capacitors-MLCC---SMD-SMT_Samsung-Electro-Mechanics-Samsung-Electro-Mechanics-CL21B105KBFNNNE_C28323.html; ComponentLink4Description: Samsung Component Library; ComponentLink4URL: https://weblib.samsungsem.com/mlcc/mlcc-ec.do?partNumber=CL21B105KBFNNN; Capacitance @ 1.35V DC Bias: 1.023uF; Capacitance @ 1.5V DC Bias: 1.023uF; Capacitance @ 1.8V DC Bias: 1.023uF
footprint CAP-0805 (0805 (2012M) Capacitor)
pins: 1, 2

## CL21B223KBANNNC
designator C?  Capacitance: 22nF  (hidden comment: *)
Capacitor, Ceramic (MLCC), 22nF, ±10%, 50V, X7R, ±10%, SMD 0805; Manufacturer: Samsung Electro-Mechanics; Manufacturer Part Number: CL21B223KBANNNC; Temperature Rating: -55°C ~ 125°C; Capacitance @ 1V DC Bias: 23.215nF; Capacitance @ 1.2V DC Bias: 23.284nF; Capacitance @ 1.35V DC Bias: 23.335nF; Capacitance @ 1.5V DC Bias: 23.383nF; Capacitance @ 1.8V DC Bias: 23.468nF; Capacitance @ 2.5V DC Bias: 23.573nF; Capacitance @ 3.3V DC Bias: 23.621nF; Capacitance @ 3.7V DC Bias: 23.639nF; Capacitance @ 4.2V DC Bias: 23.665nF; Capacitance @ 5V DC Bias: 23.709nF; Capacitance @ 9V DC Bias: 23.673nF; Capacitance @ 12V DC Bias: 23.509nF; Capacitance @ 15V DC Bias: 23.295nF; Capacitance @ 24V DC Bias: 22.251nF; Capacitance @ 36V DC Bias: 20.428nF; Capacitance @ 48V DC Bias: 18.116nF; Impedance (0V Bias) @ 100Hz: 7.26E+04Ω; Impedance (0V Bias) @ 500Hz: 1.48E+04Ω; Impedance (0V Bias) @ 1kHz: 7.42E+03Ω; Impedance (0V Bias) @ 5kHz: 1.51E+03Ω; Impedance (0V Bias) @ 10kHz: 759Ω; Impedance (0V Bias) @ 50kHz: 154Ω; Impedance (0V Bias) @ 100kHz: 77.4Ω; Impedance (0V Bias) @ 500kHz: 15.7Ω; Impedance (0V Bias) @ 1MHz: 7.89Ω; Impedance (0V Bias) @ 5MHz: 1.6Ω; Impedance (0V Bias) @ 10MHz: 0.791Ω; Impedance (0V Bias) @ 50MHz: 0.0677Ω; Impedance (0V Bias) @ 100MHz: 0.173Ω; Impedance (0V Bias) @ 500MHz: 1Ω; Impedance (0V Bias) @ 1GHz: 1.85Ω; Impedance (0V Bias) @ 2GHz: 4.69Ω; Impedance (0V Bias) @ 5GHz: 7.59Ω; Package Size: 0805; JLCPCB Basic Part: Yes; JLCPCB Part Number: C1729; Supplier 1: LCSC; Category: Capacitors - MLCC; Supplier Part Number 1: C1729; Tolerance: ±10%; Voltage Rating: 50V; Temperature Coefficient: X7R; RoHS: Yes; ComponentLink1Description: Datasheet; ComponentLink1URL: https://wmsc.lcsc.com/wmsc/upload/file/pdf/v2/lcsc/2304140030_Samsung-Electro-Mechanics-CL21B223KBANNNC_C1729.pdf; ComponentLink2Description: JLCPCB Part URL; ComponentLink2URL: https://jlcpcb.com/partdetail/C1729; ComponentLink3Description: LCSC Part URL; ComponentLink3URL: https://lcsc.com/product-detail/Multilayer-Ceramic-Capacitors-MLCC---SMD-SMT_Samsung-Electro-Mechanics-Samsung-Electro-Mechanics-CL21B223KBANNNC_C1729.html; ComponentLink4Description: Samsung Component Library; ComponentLink4URL: https://weblib.samsungsem.com/mlcc/mlcc-ec.do?partNumber=CL21B223KBANNN
footprint CAP-0805 (0805 (2012M) Capacitor)
pins: 1, 2

## CL21B224KBFNNNE
designator C?  Capacitance: 220nF  (hidden comment: *)
Capacitor, Ceramic (MLCC), 220nF, ±10%, 50V, X7R, ±10%, SMD 0805; Manufacturer: Samsung Electro-Mechanics; Manufacturer Part Number: CL21B224KBFNNNE; Temperature Rating: -55°C ~ 125°C; Capacitance @ 1V DC Bias: 225.693nF; Capacitance @ 1.2V DC Bias: 226.196nF; Capacitance @ 1.35V DC Bias: 226.716nF; Capacitance @ 1.5V DC Bias: 227.283nF; Capacitance @ 1.8V DC Bias: 228.348nF; Capacitance @ 2.5V DC Bias: 229.076nF; Capacitance @ 3.3V DC Bias: 228.527nF; Capacitance @ 3.7V DC Bias: 228.002nF; Capacitance @ 4.2V DC Bias: 227.332nF; Capacitance @ 5V DC Bias: 226.161nF; Capacitance @ 9V DC Bias: 215.876nF; Capacitance @ 12V DC Bias: 204.525nF; Capacitance @ 15V DC Bias: 192.396nF; Capacitance @ 24V DC Bias: 153.699nF; Capacitance @ 36V DC Bias: 110.941nF; Capacitance @ 48V DC Bias: 81.108nF; Impedance (0V Bias) @ 100Hz: 7.22E+03Ω; Impedance (0V Bias) @ 500Hz: 1.47E+03Ω; Impedance (0V Bias) @ 1kHz: 738Ω; Impedance (0V Bias) @ 5kHz: 150Ω; Impedance (0V Bias) @ 10kHz: 75.3Ω; Impedance (0V Bias) @ 50kHz: 15.2Ω; Impedance (0V Bias) @ 100kHz: 7.66Ω; Impedance (0V Bias) @ 500kHz: 1.55Ω; Impedance (0V Bias) @ 1MHz: 0.776Ω; Impedance (0V Bias) @ 5MHz: 0.141Ω; Impedance (0V Bias) @ 10MHz: 0.0469Ω; Impedance (0V Bias) @ 50MHz: 0.125Ω; Impedance (0V Bias) @ 100MHz: 0.226Ω; Impedance (0V Bias) @ 500MHz: 1.03Ω; Impedance (0V Bias) @ 1GHz: 2.08Ω; Impedance (0V Bias) @ 2GHz: 5.76Ω; Impedance (0V Bias) @ 5GHz: 8.59Ω; Package Size: 0805; JLCPCB Basic Part: Yes; JLCPCB Part Number: C5378; Supplier 1: LCSC; Category: Capacitors - MLCC; Supplier Part Number 1: C5378; Tolerance: ±10%; Voltage Rating: 50V; Temperature Coefficient: X7R; RoHS: Yes; ComponentLink1Description: Datasheet; ComponentLink1URL: https://wmsc.lcsc.com/wmsc/upload/file/pdf/v2/lcsc/2304140030_Samsung-Electro-Mechanics-CL21B224KBFNNNE_C5378.pdf; ComponentLink2Description: JLCPCB Part URL; ComponentLink2URL: https://jlcpcb.com/partdetail/C5378; ComponentLink3Description: LCSC Part URL; ComponentLink3URL: https://lcsc.com/product-detail/Multilayer-Ceramic-Capacitors-MLCC---SMD-SMT_Samsung-Electro-Mechanics-Samsung-Electro-Mechanics-CL21B224KBFNNNE_C5378.html; ComponentLink4Description: Samsung Component Library; ComponentLink4URL: https://weblib.samsungsem.com/mlcc/mlcc-ec.do?partNumber=CL21B224KBFNNN
footprint CAP-0805 (0805 (2012M) Capacitor)
pins: 1, 2

## CL21B473KBCNNNC
designator C?  Capacitance: 47nF  (hidden comment: *)
Capacitor, Ceramic (MLCC), 47nF, ±10%, 50V, X7R, ±10%, SMD 0805; Manufacturer: Samsung Electro-Mechanics; Manufacturer Part Number: CL21B473KBCNNNC; Temperature Rating: -55°C ~ 125°C; Capacitance @ 1V DC Bias: 47.743nF; Capacitance @ 1.2V DC Bias: 47.804nF; Capacitance @ 1.35V DC Bias: 47.849nF; Capacitance @ 1.5V DC Bias: 47.892nF; Capacitance @ 1.8V DC Bias: 47.964nF; Capacitance @ 2.5V DC Bias: 47.989nF; Capacitance @ 3.3V DC Bias: 48.073nF; Capacitance @ 3.7V DC Bias: 48.228nF; Capacitance @ 4.2V DC Bias: 48.310nF; Capacitance @ 5V DC Bias: 48.211nF; Capacitance @ 9V DC Bias: 47.580nF; Capacitance @ 12V DC Bias: 46.673nF; Capacitance @ 15V DC Bias: 45.635nF; Capacitance @ 24V DC Bias: 41.687nF; Capacitance @ 36V DC Bias: 34.181nF; Capacitance @ 48V DC Bias: 25.313nF; Impedance (0V Bias) @ 100Hz: 3.56E+04Ω; Impedance (0V Bias) @ 500Hz: 7.22E+03Ω; Impedance (0V Bias) @ 1kHz: 3.63E+03Ω; Impedance (0V Bias) @ 5kHz: 736Ω; Impedance (0V Bias) @ 10kHz: 370Ω; Impedance (0V Bias) @ 50kHz: 75.1Ω; Impedance (0V Bias) @ 100kHz: 37.7Ω; Impedance (0V Bias) @ 500kHz: 7.64Ω; Impedance (0V Bias) @ 1MHz: 3.84Ω; Impedance (0V Bias) @ 5MHz: 0.766Ω; Impedance (0V Bias) @ 10MHz: 0.363Ω; Impedance (0V Bias) @ 50MHz: 0.0744Ω; Impedance (0V Bias) @ 100MHz: 0.241Ω; Impedance (0V Bias) @ 500MHz: 1.14Ω; Impedance (0V Bias) @ 1GHz: 2.29Ω; Impedance (0V Bias) @ 2GHz: 6.81Ω; Impedance (0V Bias) @ 5GHz: 8.83Ω; Package Size: 0805; JLCPCB Basic Part: Yes; JLCPCB Part Number: C53134; Supplier 1: LCSC; Category: Capacitors - MLCC; Supplier Part Number 1: C53134; Tolerance: ±10%; Voltage Rating: 50V; Temperature Coefficient: X7R; RoHS: Yes; ComponentLink1Description: Datasheet; ComponentLink1URL: https://wmsc.lcsc.com/wmsc/upload/file/pdf/v2/lcsc/2304140030_Samsung-Electro-Mechanics-CL21B473KBCNNNC_C53134.pdf; ComponentLink2Description: JLCPCB Part URL; ComponentLink2URL: https://jlcpcb.com/partdetail/C53134; ComponentLink3Description: LCSC Part URL; ComponentLink3URL: https://lcsc.com/product-detail/Multilayer-Ceramic-Capacitors-MLCC---SMD-SMT_Samsung-Electro-Mechanics-Samsung-Electro-Mechanics-CL21B473KBCNNNC_C53134.html; ComponentLink4Description: Samsung Component Library; ComponentLink4URL: https://weblib.samsungsem.com/mlcc/mlcc-ec.do?partNumber=CL21B473KBCNNN
footprint CAP-0805 (0805 (2012M) Capacitor)
pins: 1, 2

## CL21B474KBFNNNE
designator C?  Capacitance: 470nF  (hidden comment: *)
Capacitor, Ceramic (MLCC), 470nF, ±10%, 50V, X7R, ±10%, SMD 0805; Manufacturer: Samsung Electro-Mechanics; Manufacturer Part Number: CL21B474KBFNNNE; Temperature Rating: -55°C ~ 125°C; Capacitance @ 1V DC Bias: 484.366nF; Capacitance @ 1.2V DC Bias: 485.709nF; Capacitance @ 1.35V DC Bias: 486.733nF; Capacitance @ 1.5V DC Bias: 487.728nF; Capacitance @ 1.8V DC Bias: 489.453nF; Capacitance @ 2.5V DC Bias: 491.116nF; Capacitance @ 3.3V DC Bias: 490.196nF; Capacitance @ 3.7V DC Bias: 488.843nF; Capacitance @ 4.2V DC Bias: 486.322nF; Capacitance @ 5V DC Bias: 480.667nF; Capacitance @ 9V DC Bias: 444.308nF; Capacitance @ 12V DC Bias: 402.629nF; Capacitance @ 15V DC Bias: 360.468nF; Capacitance @ 24V DC Bias: 251.778nF; Capacitance @ 36V DC Bias: 161.853nF; Capacitance @ 48V DC Bias: 116.152nF; Impedance (0V Bias) @ 100Hz: 3.21E+03Ω; Impedance (0V Bias) @ 500Hz: 654Ω; Impedance (0V Bias) @ 1kHz: 329Ω; Impedance (0V Bias) @ 5kHz: 67Ω; Impedance (0V Bias) @ 10kHz: 33.7Ω; Impedance (0V Bias) @ 50kHz: 6.83Ω; Impedance (0V Bias) @ 100kHz: 3.44Ω; Impedance (0V Bias) @ 500kHz: 0.697Ω; Impedance (0V Bias) @ 1MHz: 0.348Ω; Impedance (0V Bias) @ 5MHz: 0.0566Ω; Impedance (0V Bias) @ 10MHz: 0.0125Ω; Impedance (0V Bias) @ 50MHz: 0.0936Ω; Impedance (0V Bias) @ 100MHz: 0.169Ω; Impedance (0V Bias) @ 500MHz: 0.737Ω; Impedance (0V Bias) @ 1GHz: 1.43Ω; Impedance (0V Bias) @ 2GHz: 3.83Ω; Impedance (0V Bias) @ 5GHz: 4.98Ω; Package Size: 0805; JLCPCB Basic Part: Yes; JLCPCB Part Number: C13967; Supplier 1: LCSC; Category: Capacitors - MLCC; Supplier Part Number 1: C13967; Tolerance: ±10%; Voltage Rating: 50V; Temperature Coefficient: X7R; RoHS: Yes; ComponentLink1Description: Datasheet; ComponentLink1URL: https://wmsc.lcsc.com/wmsc/upload/file/pdf/v2/lcsc/2304140030_Samsung-Electro-Mechanics-CL21B474KBFNNNE_C13967.pdf; ComponentLink2Description: JLCPCB Part URL; ComponentLink2URL: https://jlcpcb.com/partdetail/C13967; ComponentLink3Description: LCSC Part URL; ComponentLink3URL: https://lcsc.com/product-detail/Multilayer-Ceramic-Capacitors-MLCC---SMD-SMT_Samsung-Electro-Mechanics-Samsung-Electro-Mechanics-CL21B474KBFNNNE_C13967.html; ComponentLink4Description: Samsung Component Library; ComponentLink4URL: https://weblib.samsungsem.com/mlcc/mlcc-ec.do?partNumber=CL21B474KBFNNN
footprint CAP-0805 (0805 (2012M) Capacitor)
pins: 1, 2

## CL21C101JBANNNC
designator C?  Capacitance: 100pF  (hidden comment: *)
Capacitor, Ceramic (MLCC), 100pF, ±5%, 50V, C0G, ±5%, SMD 0805; Manufacturer: Samsung Electro-Mechanics; Manufacturer Part Number: CL21C101JBANNNC; Temperature Rating: -55°C ~ 125°C; Impedance (0V Bias) @ 100MHz: 15.6Ω; Impedance (0V Bias) @ 500MHz: 1.81Ω; Impedance (0V Bias) @ 1GHz: 1.14Ω; Impedance (0V Bias) @ 2GHz: 6.04Ω; Impedance (0V Bias) @ 5GHz: 11.1Ω; Package Size: 0805; JLCPCB Basic Part: Yes; JLCPCB Part Number: C1790; Supplier 1: LCSC; Category: Capacitors - MLCC; Supplier Part Number 1: C1790; Tolerance: ±5%; Voltage Rating: 50V; Temperature Coefficient: C0G; RoHS: Yes; ComponentLink1Description: Datasheet; ComponentLink1URL: https://wmsc.lcsc.com/wmsc/upload/file/pdf/v2/lcsc/2304140030_Samsung-Electro-Mechanics-CL21C101JBANNNC_C1790.pdf; ComponentLink2Description: JLCPCB Part URL; ComponentLink2URL: https://jlcpcb.com/partdetail/C1790; ComponentLink3Description: LCSC Part URL; ComponentLink3URL: https://lcsc.com/product-detail/Multilayer-Ceramic-Capacitors-MLCC---SMD-SMT_Samsung-Electro-Mechanics-Samsung-Electro-Mechanics-CL21C101JBANNNC_C1790.html; ComponentLink4Description: Samsung Component Library; ComponentLink4URL: https://weblib.samsungsem.com/mlcc/mlcc-ec.do?partNumber=CL21C101JBANNN
footprint CAP-0805 (0805 (2012M) Capacitor)
pins: 1, 2

## CL21C200JBANNNC
designator C?  Capacitance: 20pF  (hidden comment: *)
Capacitor, Ceramic (MLCC), 20pF, ±5%, 50V, C0G, ±5%, SMD 0805; Manufacturer: Samsung Electro-Mechanics; Manufacturer Part Number: CL21C200JBANNNC; Temperature Rating: -55°C ~ 125°C; Impedance (0V Bias) @ 100MHz: 79.3Ω; Impedance (0V Bias) @ 500MHz: 14.7Ω; Impedance (0V Bias) @ 1GHz: 5.55Ω; Impedance (0V Bias) @ 2GHz: 2.72Ω; Impedance (0V Bias) @ 5GHz: 10.1Ω; Package Size: 0805; JLCPCB Basic Part: Yes; JLCPCB Part Number: C1798; Supplier 1: LCSC; Category: Capacitors - MLCC; Supplier Part Number 1: C1798; Tolerance: ±5%; Voltage Rating: 50V; Temperature Coefficient: C0G; RoHS: Yes; ComponentLink1Description: Datasheet; ComponentLink1URL: https://wmsc.lcsc.com/wmsc/upload/file/pdf/v2/lcsc/2304140030_Samsung-Electro-Mechanics-CL21C200JBANNNC_C1798.pdf; ComponentLink2Description: JLCPCB Part URL; ComponentLink2URL: https://jlcpcb.com/partdetail/C1798; ComponentLink3Description: LCSC Part URL; ComponentLink3URL: https://lcsc.com/product-detail/Multilayer-Ceramic-Capacitors-MLCC---SMD-SMT_Samsung-Electro-Mechanics-Samsung-Electro-Mechanics-CL21C200JBANNNC_C1798.html; ComponentLink4Description: Samsung Component Library; ComponentLink4URL: https://weblib.samsungsem.com/mlcc/mlcc-ec.do?partNumber=CL21C200JBANNN
footprint CAP-0805 (0805 (2012M) Capacitor)
pins: 1, 2

## CL21C220JBANNNC
designator C?  Capacitance: 22pF  (hidden comment: *)
Capacitor, Ceramic (MLCC), 22pF, ±5%, 50V, C0G, ±5%, SMD 0805; Manufacturer: Samsung Electro-Mechanics; Manufacturer Part Number: CL21C220JBANNNC; Temperature Rating: -55°C ~ 125°C; Impedance (0V Bias) @ 100MHz: 72.1Ω; Impedance (0V Bias) @ 500MHz: 13.2Ω; Impedance (0V Bias) @ 1GHz: 4.73Ω; Impedance (0V Bias) @ 2GHz: 3.26Ω; Impedance (0V Bias) @ 5GHz: 11.2Ω; Package Size: 0805; JLCPCB Basic Part: Yes; JLCPCB Part Number: C1804; Supplier 1: LCSC; Category: Capacitors - MLCC; Supplier Part Number 1: C1804; Tolerance: ±5%; Voltage Rating: 50V; Temperature Coefficient: C0G; RoHS: Yes; ComponentLink1Description: Datasheet; ComponentLink1URL: https://wmsc.lcsc.com/wmsc/upload/file/pdf/v2/lcsc/2304140030_Samsung-Electro-Mechanics-CL21C220JBANNNC_C1804.pdf; ComponentLink2Description: JLCPCB Part URL; ComponentLink2URL: https://jlcpcb.com/partdetail/C1804; ComponentLink3Description: LCSC Part URL; ComponentLink3URL: https://lcsc.com/product-detail/Multilayer-Ceramic-Capacitors-MLCC---SMD-SMT_Samsung-Electro-Mechanics-Samsung-Electro-Mechanics-CL21C220JBANNNC_C1804.html; ComponentLink4Description: Samsung Component Library; ComponentLink4URL: https://weblib.samsungsem.com/mlcc/mlcc-ec.do?partNumber=CL21C220JBANNN
footprint CAP-0805 (0805 (2012M) Capacitor)
pins: 1, 2

## CL21C222JBFNNNE
designator C?  Capacitance: 2.2nF  (hidden comment: *)
Capacitor, Ceramic (MLCC), 2.2nF, ±5%, 50V, C0G, ±5%, SMD 0805; Manufacturer: Samsung Electro-Mechanics; Manufacturer Part Number: CL21C222JBFNNNE; Temperature Rating: -55°C ~ 125°C; Impedance (0V Bias) @ 1MHz: 72.3Ω; Impedance (0V Bias) @ 5MHz: 14.5Ω; Impedance (0V Bias) @ 10MHz: 7.2Ω; Impedance (0V Bias) @ 50MHz: 1.29Ω; Impedance (0V Bias) @ 100MHz: 0.415Ω; Impedance (0V Bias) @ 500MHz: 1.04Ω; Impedance (0V Bias) @ 1GHz: 1.98Ω; Impedance (0V Bias) @ 2GHz: 4.86Ω; Impedance (0V Bias) @ 5GHz: 9.61Ω; Package Size: 0805; JLCPCB Basic Part: Yes; JLCPCB Part Number: C28260; Supplier 1: LCSC; Category: Capacitors - MLCC; Supplier Part Number 1: C28260; Tolerance: ±5%; Voltage Rating: 50V; Temperature Coefficient: C0G; RoHS: Yes; ComponentLink1Description: Datasheet; ComponentLink1URL: https://wmsc.lcsc.com/wmsc/upload/file/pdf/v2/lcsc/2304140030_Samsung-Electro-Mechanics-CL21C222JBFNNNE_C28260.pdf; ComponentLink2Description: JLCPCB Part URL; ComponentLink2URL: https://jlcpcb.com/partdetail/C28260; ComponentLink3Description: LCSC Part URL; ComponentLink3URL: https://lcsc.com/product-detail/Multilayer-Ceramic-Capacitors-MLCC---SMD-SMT_Samsung-Electro-Mechanics-Samsung-Electro-Mechanics-CL21C222JBFNNNE_C28260.html; ComponentLink4Description: Samsung Component Library; ComponentLink4URL: https://weblib.samsungsem.com/mlcc/mlcc-ec.do?partNumber=CL21C222JBFNNN
footprint CAP-0805 (0805 (2012M) Capacitor)
pins: 1, 2

## CL21C470JBANNNC
designator C?  Capacitance: 47pF  (hidden comment: *)
Capacitor, Ceramic (MLCC), 47pF, ±5%, 50V, C0G, ±5%, SMD 0805; Manufacturer: Samsung Electro-Mechanics; Manufacturer Part Number: CL21C470JBANNNC; Temperature Rating: -55°C ~ 125°C; Impedance (0V Bias) @ 100MHz: 33.6Ω; Impedance (0V Bias) @ 500MHz: 5.4Ω; Impedance (0V Bias) @ 1GHz: 0.703Ω; Impedance (0V Bias) @ 2GHz: 5.25Ω; Impedance (0V Bias) @ 5GHz: 12.3Ω; Package Size: 0805; JLCPCB Basic Part: Yes; JLCPCB Part Number: C14857; Supplier 1: LCSC; Category: Capacitors - MLCC; Supplier Part Number 1: C14857; Tolerance: ±5%; Voltage Rating: 50V; Temperature Coefficient: C0G; RoHS: Yes; ComponentLink1Description: Datasheet; ComponentLink1URL: https://wmsc.lcsc.com/wmsc/upload/file/pdf/v2/lcsc/2304140030_Samsung-Electro-Mechanics-CL21C470JBANNNC_C14857.pdf; ComponentLink2Description: JLCPCB Part URL; ComponentLink2URL: https://jlcpcb.com/partdetail/C14857; ComponentLink3Description: LCSC Part URL; ComponentLink3URL: https://lcsc.com/product-detail/Multilayer-Ceramic-Capacitors-MLCC---SMD-SMT_Samsung-Electro-Mechanics-Samsung-Electro-Mechanics-CL21C470JBANNNC_C14857.html; ComponentLink4Description: Samsung Component Library; ComponentLink4URL: https://weblib.samsungsem.com/mlcc/mlcc-ec.do?partNumber=CL21C470JBANNN
footprint CAP-0805 (0805 (2012M) Capacitor)
pins: 1, 2

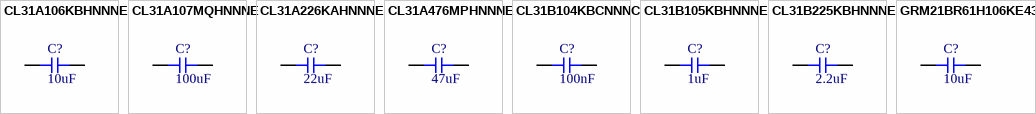
[diagram p2: symbols CL31A106KBHNNNE to GRM21BR61H106KE43L]

## CL31A106KBHNNNE
designator C?  Capacitance: 10uF  (hidden comment: *)
Capacitor, Ceramic (MLCC), 10uF, ±10%, 50V, X5R, ±10%, SMD 1206; Manufacturer: Samsung Electro-Mechanics; Manufacturer Part Number: CL31A106KBHNNNE; Temperature Rating: -55°C ~ 85°C; Capacitance @ 1V DC Bias: 10.893uF; Capacitance @ 1.2V DC Bias: 10.845uF; Capacitance @ 1.35V DC Bias: 10.805uF; Capacitance @ 1.5V DC Bias: 10.758uF; Capacitance @ 1.8V DC Bias: 10.643uF; Capacitance @ 2.5V DC Bias: 10.207uF; Capacitance @ 3.3V DC Bias: 9.569uF; Capacitance @ 3.7V DC Bias: 9.212uF; Capacitance @ 4.2V DC Bias: 8.754uF; Capacitance @ 5V DC Bias: 8.026uF; Capacitance @ 9V DC Bias: 5.016uF; Capacitance @ 12V DC Bias: 3.815uF; Capacitance @ 15V DC Bias: 2.884uF; Capacitance @ 24V DC Bias: 1.592uF; Capacitance @ 36V DC Bias: 0.865uF; Capacitance @ 48V DC Bias: 0.593uF; Impedance (0V Bias) @ 100Hz: 214Ω; Impedance (0V Bias) @ 500Hz: 43.9Ω; Impedance (0V Bias) @ 1kHz: 22.2Ω; Impedance (0V Bias) @ 5kHz: 4.53Ω; Impedance (0V Bias) @ 10kHz: 2.28Ω; Impedance (0V Bias) @ 50kHz: 0.466Ω; Impedance (0V Bias) @ 100kHz: 0.235Ω; Impedance (0V Bias) @ 500kHz: 0.0451Ω; Impedance (0V Bias) @ 1MHz: 0.0185Ω; Impedance (0V Bias) @ 5MHz: 0.0232Ω; Impedance (0V Bias) @ 10MHz: 0.0366Ω; Impedance (0V Bias) @ 50MHz: 0.137Ω; Impedance (0V Bias) @ 100MHz: 0.247Ω; Impedance (0V Bias) @ 500MHz: 1.04Ω; Impedance (0V Bias) @ 1GHz: 2.01Ω; Impedance (0V Bias) @ 2GHz: 5.31Ω; Impedance (0V Bias) @ 5GHz: 6Ω; Package Size: 1206; JLCPCB Basic Part: Yes; JLCPCB Part Number: C13585; Supplier 1: LCSC; Category: Capacitors - MLCC; Supplier Part Number 1: C13585; Tolerance: ±10%; Voltage Rating: 50V; Temperature Coefficient: X5R; RoHS: Yes; ComponentLink1Description: Datasheet; ComponentLink1URL: https://wmsc.lcsc.com/wmsc/upload/file/pdf/v2/lcsc/2304140030_Samsung-Electro-Mechanics-CL31A106KBHNNNE_C13585.pdf; ComponentLink2Description: JLCPCB Part URL; ComponentLink2URL: https://jlcpcb.com/partdetail/C13585; ComponentLink3Description: LCSC Part URL; ComponentLink3URL: https://lcsc.com/product-detail/Multilayer-Ceramic-Capacitors-MLCC---SMD-SMT_Samsung-Electro-Mechanics-Samsung-Electro-Mechanics-CL31A106KBHNNNE_C13585.html; ComponentLink4Description: Samsung Component Library; ComponentLink4URL: https://weblib.samsungsem.com/mlcc/mlcc-ec.do?partNumber=CL31A106KBHNNN
footprint CAP-1206 (1206 (3216M) Capacitor)
pins: 1, 2

## CL31A107MQHNNNE
designator C?  Capacitance: 100uF  (hidden comment: *)
Capacitor, Ceramic (MLCC), 100uF, ±20%, 6.3V, X5R, ±20%, SMD 1206; Manufacturer: Samsung Electro-Mechanics; Manufacturer Part Number: CL31A107MQHNNNE; Temperature Rating: -55°C ~ 85°C; Capacitance @ 1V DC Bias: 82.272uF; Capacitance @ 1.2V DC Bias: 78.081uF; Capacitance @ 1.35V DC Bias: 74.731uF; Capacitance @ 1.5V DC Bias: 71.354uF; Capacitance @ 1.8V DC Bias: 64.840uF; Capacitance @ 2.5V DC Bias: 52.336uF; Capacitance @ 3.3V DC Bias: 40.695uF; Capacitance @ 3.7V DC Bias: 36.419uF; Capacitance @ 4.2V DC Bias: 32.096uF; Capacitance @ 5V DC Bias: 26.538uF; Impedance (0V Bias) @ 100Hz: 22Ω; Impedance (0V Bias) @ 500Hz: 4.52Ω; Impedance (0V Bias) @ 1kHz: 2.28Ω; Impedance (0V Bias) @ 5kHz: 0.467Ω; Impedance (0V Bias) @ 10kHz: 0.236Ω; Impedance (0V Bias) @ 50kHz: 0.0479Ω; Impedance (0V Bias) @ 100kHz: 0.0235Ω; Impedance (0V Bias) @ 500kHz: 0.00247Ω; Impedance (0V Bias) @ 1MHz: 0.00694Ω; Impedance (0V Bias) @ 5MHz: 0.0201Ω; Impedance (0V Bias) @ 10MHz: 0.0348Ω; Impedance (0V Bias) @ 50MHz: 0.13Ω; Impedance (0V Bias) @ 100MHz: 0.24Ω; Impedance (0V Bias) @ 500MHz: 0.948Ω; Impedance (0V Bias) @ 1GHz: 1.82Ω; Impedance (0V Bias) @ 2GHz: 4.87Ω; Impedance (0V Bias) @ 5GHz: 7.13Ω; Package Size: 1206; JLCPCB Basic Part: Yes; JLCPCB Part Number: C15008; Supplier 1: LCSC; Category: Capacitors - MLCC; Supplier Part Number 1: C15008; Tolerance: ±20%; Voltage Rating: 6.3V; Temperature Coefficient: X5R; RoHS: Yes; ComponentLink1Description: Datasheet; ComponentLink1URL: https://wmsc.lcsc.com/wmsc/upload/file/pdf/v2/lcsc/2304140030_Samsung-Electro-Mechanics-CL31A107MQHNNNE_C15008.pdf; ComponentLink2Description: JLCPCB Part URL; ComponentLink2URL: https://jlcpcb.com/partdetail/C15008; ComponentLink3Description: LCSC Part URL; ComponentLink3URL: https://lcsc.com/product-detail/Multilayer-Ceramic-Capacitors-MLCC---SMD-SMT_Samsung-Electro-Mechanics-Samsung-Electro-Mechanics-CL31A107MQHNNNE_C15008.html; ComponentLink4Description: Samsung Component Library; ComponentLink4URL: https://weblib.samsungsem.com/mlcc/mlcc-ec.do?partNumber=CL31A107MQHNNN
footprint CAP-1206 (1206 (3216M) Capacitor)
pins: 1, 2